# Altium footprint library EISI.PcbLib: 695 footprints (part 41 of 44)
Each footprint in its own frame and in the unit in brackets; x right, y up, seen from the top. Pads: shape width x height; smd on the part's side, far side on the other; paste and mask are expansions set on the pad; w line width, h text height; cw(c..) or ccw(c..) is an arc to the next point about the centre after c.
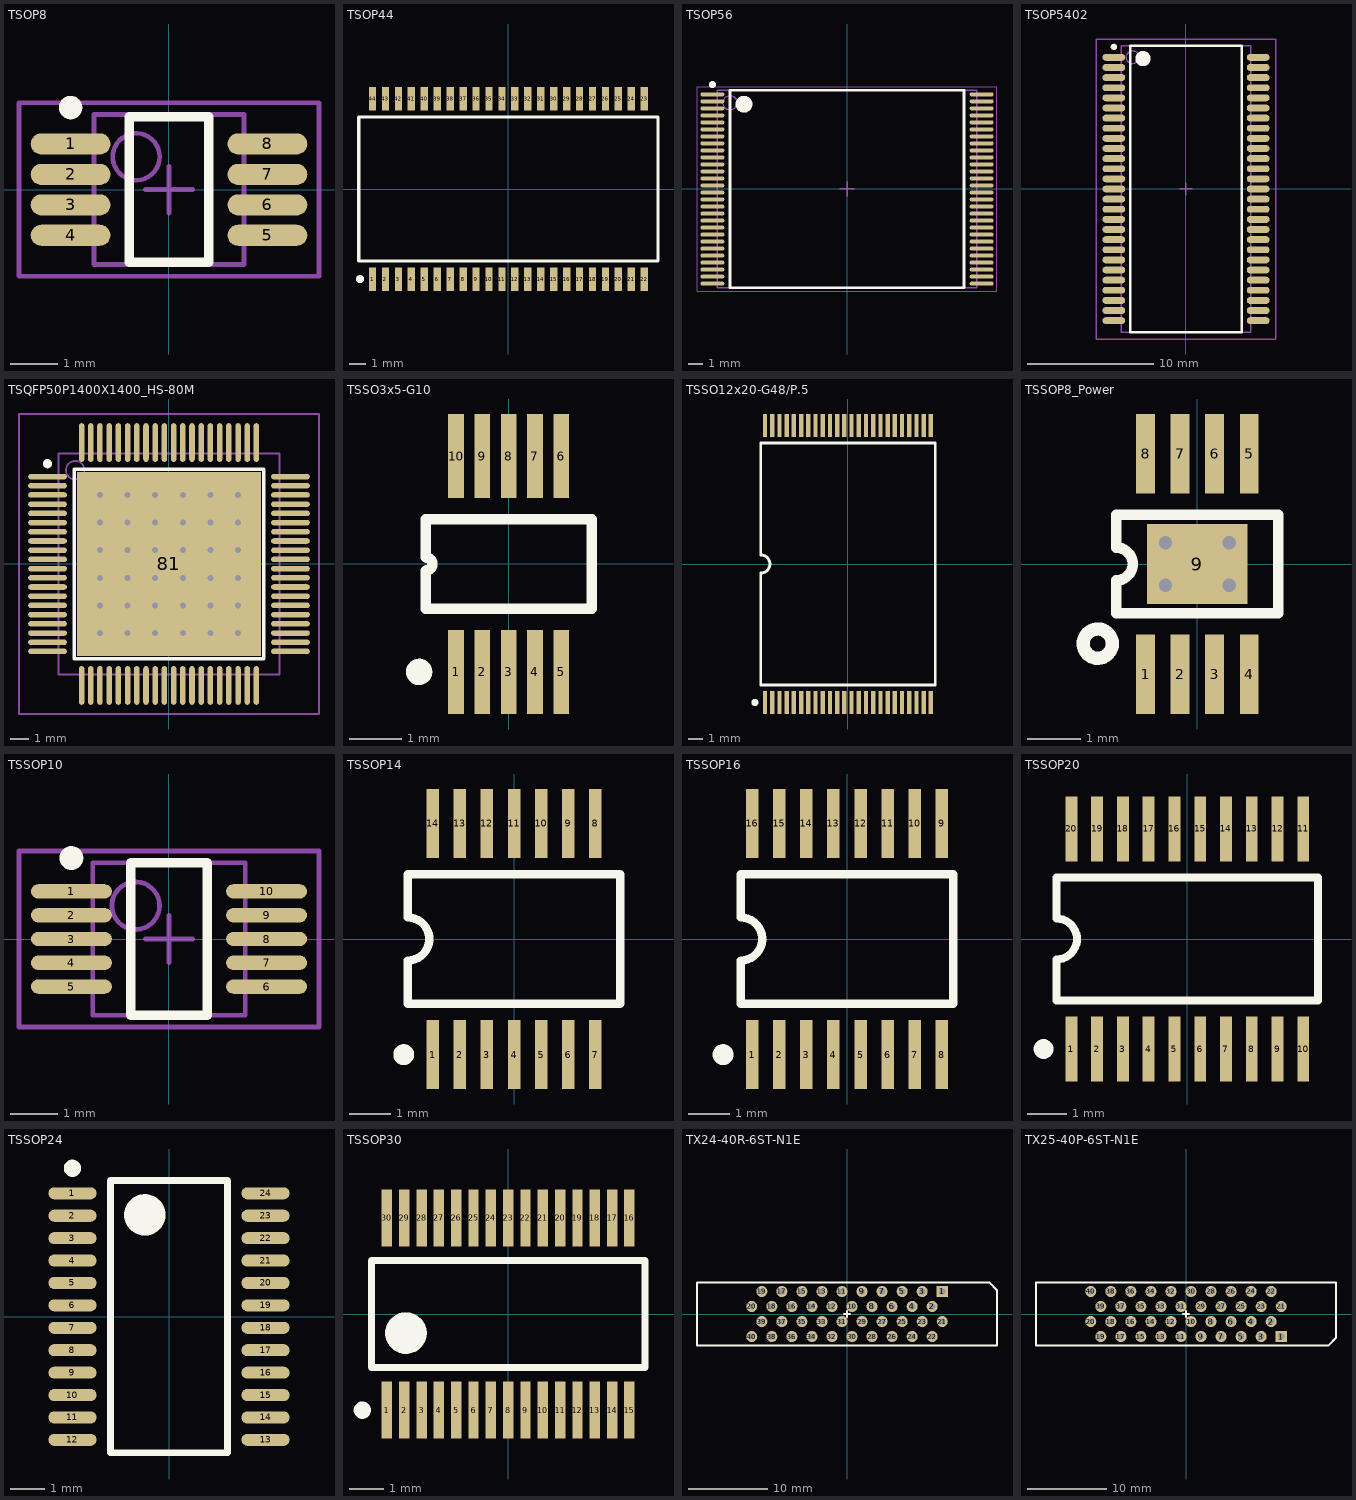
[diagram p40: the footprints below, top view; thin cyan lines are the x and y axes]

## TSOP8 [mm] "TSOP, 8-Leads, Body 3x3mm, Pitch 0.65mm, IPC Medium Density"
height 1.09
pads (8):
  oval 1.7x0.45 smd: 1(-2.1,0.975) 2(-2.1,0.325) 3(-2.1,-0.325) 4(-2.1,-0.975) 5(2.1,-0.975) 6(2.1,-0.325) 7(2.1,0.325) 8(2.1,0.975)
TopOverlay:
  circle w0.25: c-2.1,1.75 r0.125
  lines w0.2: -0.85,-1.55 -0.85,1.55 0.85,1.55 0.85,-1.55 -0.85,-1.55
Mechanical13:
  circle w0.1: c-0.7,0.7 r0.5
  lines w0.1: -1.6,-1.6 -1.6,1.6 1.6,1.6 1.6,-1.6 -1.6,-1.6
Mechanical15:
  lines w0.1: -0.5,0 0.5,0 ; 0,-0.5 0,0.5 ; -3.2,-1.85 -3.2,1.85 3.2,1.85 3.2,-1.85 -3.2,-1.85
3D body: height 1.09, standoff 0, extent -1.6,-1.6 1.6,1.6

## TSOP44 [mm] "Small Outline; 44 Leads; Body Width 10.16 mm; Pitch 0.8 mm"
height 1.2
pads (44):
  rect 0.45x1.45 smd: 1(-8.4,-5.575) 2(-7.6,-5.575) 3(-6.8,-5.575) 4(-6,-5.575) 5(-5.2,-5.575) 6(-4.4,-5.575) 7(-3.6,-5.575) 8(-2.8,-5.575) 9(-2,-5.575) 10(-1.2,-5.575) 11(-0.4,-5.575) 12(0.4,-5.575) 13(1.2,-5.575) 14(2,-5.575) 15(2.8,-5.575) 16(3.6,-5.575) 17(4.4,-5.575) 18(5.2,-5.575) 19(6,-5.575) 20(6.8,-5.575) 21(7.6,-5.575) 22(8.4,-5.575) 23(8.4,5.575) 24(7.6,5.575) 25(6.8,5.575) 26(6,5.575) 27(5.2,5.575) 28(4.4,5.575) 29(3.6,5.575) 30(2.8,5.575) 31(2,5.575) 32(1.2,5.575) 33(0.4,5.575) 34(-0.4,5.575) 35(-1.2,5.575) 36(-2,5.575) 37(-2.8,5.575) 38(-3.6,5.575) 39(-4.4,5.575) 40(-5.2,5.575) 41(-6,5.575) 42(-6.8,5.575) 43(-7.6,5.575) 44(-8.4,5.575)
TopOverlay:
  circle w0.25: c-9.175,-5.575 r0.125
  lines w0.2: -9.25,-4.45 9.25,-4.45 9.25,4.45 -9.25,4.45 -9.25,-0.635 -9.25,-4.45

## TSOP56 [mm] "SOP, 56-Leads, Body 18.4x14mm, Pitch 0.5mm, IPC Medium Density"
height 1
pads (56):
  oval 1.7x0.3 smd: 1(-9.6,6.75) 2(-9.6,6.25) 3(-9.6,5.75) 4(-9.6,5.25) 5(-9.6,4.75) 6(-9.6,4.25) 7(-9.6,3.75) 8(-9.6,3.25) 9(-9.6,2.75) 10(-9.6,2.25) 11(-9.6,1.75) 12(-9.6,1.25) 13(-9.6,0.75) 14(-9.6,0.25) 15(-9.6,-0.25) 16(-9.6,-0.75) 17(-9.6,-1.25) 18(-9.6,-1.75) 19(-9.6,-2.25) 20(-9.6,-2.75) 21(-9.6,-3.25) 22(-9.6,-3.75) 23(-9.6,-4.25) 24(-9.6,-4.75) 25(-9.6,-5.25) 26(-9.6,-5.75) 27(-9.6,-6.25) 28(-9.6,-6.75) 29(9.6,-6.75) 30(9.6,-6.25) 31(9.6,-5.75) 32(9.6,-5.25) 33(9.6,-4.75) 34(9.6,-4.25) 35(9.6,-3.75) 36(9.6,-3.25) 37(9.6,-2.75) 38(9.6,-2.25) 39(9.6,-1.75) 40(9.6,-1.25) 41(9.6,-0.75) 42(9.6,-0.25) 43(9.6,0.25) 44(9.6,0.75) 45(9.6,1.25) 46(9.6,1.75) 47(9.6,2.25) 48(9.6,2.75) 49(9.6,3.25) 50(9.6,3.75) 51(9.6,4.25) 52(9.6,4.75) 53(9.6,5.25) 54(9.6,5.75) 55(9.6,6.25) 56(9.6,6.75)
TopOverlay:
  circle w0.6: c-7.35,6.05 r0.3
  circle w0.25: c-9.6,7.45 r0.125
  lines w0.2: -8.35,-7.05 8.35,-7.05 8.35,7.05 -8.35,7.05 -8.35,-7.05
Mechanical13:
  circle w0.1: c-8.35,6.15 r0.5
  lines w0.1: -9.25,-7.05 9.25,-7.05 9.25,7.05 -9.25,7.05 -9.25,-7.05
Mechanical15:
  lines w0.05: -10.7,-7.3 10.7,-7.3 10.7,7.3 -10.7,7.3 -10.7,-7.3
  lines w0.1: -0.5,0 0.5,0 ; 0,-0.5 0,0.5
3D body: height 0.05, standoff 0, extent -9.25,-7.05 9.25,7.05

## TSOP5402 [mm] "SOP, 54-Leads, Body 22.5x10.16mm, Pitch 0.8mm, IPC Low Density"
height 1.2
pads (54):
  oval 1.8x0.55 smd: 1(-5.7,10.4) 2(-5.7,9.6) 3(-5.7,8.8) 4(-5.7,8) 5(-5.7,7.2) 6(-5.7,6.4) 7(-5.7,5.6) 8(-5.7,4.8) 9(-5.7,4) 10(-5.7,3.2) 11(-5.7,2.4) 12(-5.7,1.6) 13(-5.7,0.8) 14(-5.7,0) 15(-5.7,-0.8) 16(-5.7,-1.6) 17(-5.7,-2.4) 18(-5.7,-3.2) 19(-5.7,-4) 20(-5.7,-4.8) 21(-5.7,-5.6) 22(-5.7,-6.4) 23(-5.7,-7.2) 24(-5.7,-8) 25(-5.7,-8.8) 26(-5.7,-9.6) 27(-5.7,-10.4) 28(5.7,-10.4) 29(5.7,-9.6) 30(5.7,-8.8) 31(5.7,-8) 32(5.7,-7.2) 33(5.7,-6.4) 34(5.7,-5.6) 35(5.7,-4.8) 36(5.7,-4) 37(5.7,-3.2) 38(5.7,-2.4) 39(5.7,-1.6) 40(5.7,-0.8) 41(5.7,0) 42(5.7,0.8) 43(5.7,1.6) 44(5.7,2.4) 45(5.7,3.2) 46(5.7,4) 47(5.7,4.8) 48(5.7,5.6) 49(5.7,6.4) 50(5.7,7.2) 51(5.7,8) 52(5.7,8.8) 53(5.7,9.6) 54(5.7,10.4)
TopOverlay:
  circle w0.25: c-5.7,11.225 r0.125
  circle w0.6: c-3.4,10.3 r0.3
  lines w0.2: -4.4,-11.3 -4.4,11.3 4.4,11.3 4.4,-11.3 -4.4,-11.3
Mechanical13:
  circle w0.1: c-4.22,10.41 r0.5
  lines w0.1: -5.12,-11.31 -5.12,11.31 5.12,11.31 5.12,-11.31 -5.12,-11.31
Mechanical15:
  lines w0.1: -0.5,0 0.5,0 ; 0,-0.5 0,0.5 ; -7.1,-11.85 -7.1,11.85 7.1,11.85 7.1,-11.85 -7.1,-11.85
3D body: height 1.2, standoff 0, extent -5.12,-11.31 5.12,11.31

## TSQFP50P1400X1400_HS-80M [mm] "80-Pin Plastic Quad Flat Pack PowerPAD"
height 1.2
pads (81):
  oval 2.1x0.3 smd: 1(-6.6,4.75) 2(-6.6,4.25) 3(-6.6,3.75) 4(-6.6,3.25) 5(-6.6,2.75) 6(-6.6,2.25) 7(-6.6,1.75) 8(-6.6,1.25) 9(-6.6,0.75) 10(-6.6,0.25) 11(-6.6,-0.25) 12(-6.6,-0.75) 13(-6.6,-1.25) 14(-6.6,-1.75) 15(-6.6,-2.25) 16(-6.6,-2.75) 17(-6.6,-3.25) 18(-6.6,-3.75) 19(-6.6,-4.25) 20(-6.6,-4.75) 41(6.6,-4.75) 42(6.6,-4.25) 43(6.6,-3.75) 44(6.6,-3.25) 45(6.6,-2.75) 46(6.6,-2.25) 47(6.6,-1.75) 48(6.6,-1.25) 49(6.6,-0.75) 50(6.6,-0.25) 51(6.6,0.25) 52(6.6,0.75) 53(6.6,1.25) 54(6.6,1.75) 55(6.6,2.25) 56(6.6,2.75) 57(6.6,3.25) 58(6.6,3.75) 59(6.6,4.25) 60(6.6,4.75)
  oval 0.3x2.1 smd: 21(-4.75,-6.6) 22(-4.25,-6.6) 23(-3.75,-6.6) 24(-3.25,-6.6) 25(-2.75,-6.6) 26(-2.25,-6.6) 27(-1.75,-6.6) 28(-1.25,-6.6) 29(-0.75,-6.6) 30(-0.25,-6.6) 31(0.25,-6.6) 32(0.75,-6.6) 33(1.25,-6.6) 34(1.75,-6.6) 35(2.25,-6.6) 36(2.75,-6.6) 37(3.25,-6.6) 38(3.75,-6.6) 39(4.25,-6.6) 40(4.75,-6.6) 61(4.75,6.6) 62(4.25,6.6) 63(3.75,6.6) 64(3.25,6.6) 65(2.75,6.6) 66(2.25,6.6) 67(1.75,6.6) 68(1.25,6.6) 69(0.75,6.6) 70(0.25,6.6) 71(-0.25,6.6) 72(-0.75,6.6) 73(-1.25,6.6) 74(-1.75,6.6) 75(-2.25,6.6) 76(-2.75,6.6) 77(-3.25,6.6) 78(-3.75,6.6) 79(-4.25,6.6) 80(-4.75,6.6)
  rect 10x10 smd: 81(0,0)
via -0.75,-3.75 diameter 0.43 hole 0.33
via -2.25,-3.75 diameter 0.43 hole 0.33
via -3.75,-3.75 diameter 0.43 hole 0.33
via 0.75,-3.75 diameter 0.43 hole 0.33
via 2.25,-3.75 diameter 0.43 hole 0.33
via 3.75,-3.75 diameter 0.43 hole 0.33
via -0.75,-2.25 diameter 0.43 hole 0.33
via -2.25,-2.25 diameter 0.43 hole 0.33
via -3.75,-2.25 diameter 0.43 hole 0.33
via 0.75,-2.25 diameter 0.43 hole 0.33
via 2.25,-2.25 diameter 0.43 hole 0.33
via 3.75,-2.25 diameter 0.43 hole 0.33
via -0.75,-0.75 diameter 0.43 hole 0.33
via -2.25,-0.75 diameter 0.43 hole 0.33
via -3.75,-0.75 diameter 0.43 hole 0.33
via 0.75,-0.75 diameter 0.43 hole 0.33
via 2.25,-0.75 diameter 0.43 hole 0.33
via 3.75,-0.75 diameter 0.43 hole 0.33
via -0.75,3.75 diameter 0.43 hole 0.33
via -2.25,3.75 diameter 0.43 hole 0.33
via -3.75,3.75 diameter 0.43 hole 0.33
via 0.75,3.75 diameter 0.43 hole 0.33
via 2.25,3.75 diameter 0.43 hole 0.33
via 3.75,3.75 diameter 0.43 hole 0.33
via -0.75,2.25 diameter 0.43 hole 0.33
via -2.25,2.25 diameter 0.43 hole 0.33
via -3.75,2.25 diameter 0.43 hole 0.33
via 0.75,2.25 diameter 0.43 hole 0.33
via 2.25,2.25 diameter 0.43 hole 0.33
via 3.75,2.25 diameter 0.43 hole 0.33
via -0.75,0.75 diameter 0.43 hole 0.33
via -2.25,0.75 diameter 0.43 hole 0.33
via -3.75,0.75 diameter 0.43 hole 0.33
via 0.75,0.75 diameter 0.43 hole 0.33
via 2.25,0.75 diameter 0.43 hole 0.33
via 3.75,0.75 diameter 0.43 hole 0.33
TopOverlay:
  circle w0.25: c-6.6,5.45 r0.125
  lines w0.2: -5.15,-5.15 -5.15,5.15 5.15,5.15 5.15,-5.15 -5.15,-5.15
Mechanical13:
  circle w0.1: c-5.1,5.1 r0.5
  lines w0.1: -6,-6 -6,6 6,6 6,-6 -6,-6
Mechanical15:
  lines w0.1: -0.5,0 0.5,0 ; 0,-0.5 0,0.5 ; -8.15,-8.15 -8.15,8.15 8.15,8.15 8.15,-8.15 -8.15,-8.15
3D body: height 1.2, standoff 0, extent -6,-6 6,6

## TSSO3x5-G10 [mm] "Shrink Small Outline; 10 Leads; Body Width 3 mm; Pitch 0.5 mm"
height 1.1
pads (10):
  rect 0.3x1.6 smd: 1(-1,-2.05) 2(-0.5,-2.05) 3(0,-2.05) 4(0.5,-2.05) 5(1,-2.05) 6(1,2.05) 7(0.5,2.05) 8(0,2.05) 9(-0.5,2.05) 10(-1,2.05)
TopOverlay:
  circle w0.25: c-1.7,-2.05 r0.125
  lines w0.2: -1.575,-0.85 1.575,-0.85 1.575,0.85 -1.575,0.85 -1.575,0.125 cw(c-1.575,0) -1.575,-0.125 -1.575,-0.85

## TSSO12x20-G48/P.5 [mm]
pads (48):
  rect 0.3x1.6 smd: 1(-5.75,-9.6) 2(-5.25,-9.6) 3(-4.75,-9.6) 4(-4.25,-9.6) 5(-3.75,-9.6) 6(-3.25,-9.6) 7(-2.75,-9.6) 8(-2.25,-9.6) 9(-1.75,-9.6) 10(-1.25,-9.6) 11(-0.75,-9.6) 12(-0.25,-9.6) 13(0.25,-9.6) 14(0.75,-9.6) 15(1.25,-9.6) 16(1.75,-9.6) 17(2.25,-9.6) 18(2.75,-9.6) 19(3.25,-9.6) 20(3.75,-9.6) 21(4.25,-9.6) 22(4.75,-9.6) 23(5.25,-9.6) 24(5.75,-9.6) 25(5.75,9.6) 26(5.25,9.6) 27(4.75,9.6) 28(4.25,9.6) 29(3.75,9.6) 30(3.25,9.6) 31(2.75,9.6) 32(2.25,9.6) 33(1.75,9.6) 34(1.25,9.6) 35(0.75,9.6) 36(0.25,9.6) 37(-0.25,9.6) 38(-0.75,9.6) 39(-1.25,9.6) 40(-1.75,9.6) 41(-2.25,9.6) 42(-2.75,9.6) 43(-3.25,9.6) 44(-3.75,9.6) 45(-4.25,9.6) 46(-4.75,9.6) 47(-5.25,9.6) 48(-5.75,9.6)
TopOverlay:
  circle w0.25: c-6.45,-9.6 r0.125
  lines w0.2: -6.05,-8.4 -6.05,-0.635 ccw(c-6.05,0) -6.05,0.635 -6.05,8.4 6.05,8.4 6.05,-8.4 -6.05,-8.4

## TSSOP8_Power [mm] "DGN Width 3 mm; Pitch 0.65 mm"
height 1.11
pads (9):
  rect 0.35x1.5 smd: 1(-0.975,-2.075) 2(-0.325,-2.075) 3(0.325,-2.075) 4(0.975,-2.075) 5(0.975,2.075) 6(0.325,2.075) 7(-0.325,2.075) 8(-0.975,2.075)
  rect 1.9x1.5 smd: 9(0,0)
via -0.6,0.4 diameter 0.5 hole 0.25
via 0.6,0.4 diameter 0.5 hole 0.25
via 0.6,-0.4 diameter 0.5 hole 0.25
via -0.6,-0.4 diameter 0.5 hole 0.25
TopOverlay:
  circle w0.25: c-1.875,-1.5 r0.275
  lines w0.2: -1.525,-0.925 1.525,-0.925 1.525,0.925 -1.525,0.925 -1.525,0.308 cw(c-1.525,0) -1.525,-0.308 -1.525,-0.925

## TSSOP10 [mm] "TSSOP, 10-Leads, Body 3x3mm, Pitch 0.5mm, IPC Medium Density"
height 1.1
pads (10):
  oval 1.7x0.3 smd: 1(-2.05,1) 2(-2.05,0.5) 3(-2.05,0) 4(-2.05,-0.5) 5(-2.05,-1) 6(2.05,-1) 7(2.05,-0.5) 8(2.05,0) 9(2.05,0.5) 10(2.05,1)
TopOverlay:
  circle w0.25: c-2.05,1.7 r0.125
  lines w0.2: -0.8,-1.6 0.8,-1.6 0.8,1.6 -0.8,1.6 -0.8,-1.6
Mechanical13:
  circle w0.1: c-0.7,0.7 r0.5
  lines w0.1: -1.6,-1.6 1.6,-1.6 1.6,1.6 -1.6,1.6 -1.6,-1.6
Mechanical15:
  lines w0.1: -0.5,0 0.5,0 ; 0,-0.5 0,0.5 ; -3.15,-1.85 3.15,-1.85 3.15,1.85 -3.15,1.85 -3.15,-1.85
3D body: height 1.1, standoff 0, extent -1.6,-1.6 1.6,1.6

## TSSOP14 [mm] "Shrink Small Outline, TSSOP; 14 Leads; Body Width 4.4 mm; Pitch 0.65 mm"
height 1.2
pads (14):
  rect 0.3x1.65 smd: 1(-1.95,-2.775) 2(-1.3,-2.775) 3(-0.65,-2.775) 4(0,-2.775) 5(0.65,-2.775) 6(1.3,-2.775) 7(1.95,-2.775) 8(1.95,2.775) 9(1.3,2.775) 10(0.65,2.775) 11(0,2.775) 12(-0.65,2.775) 13(-1.3,2.775) 14(-1.95,2.775)
TopOverlay:
  circle w0.25: c-2.65,-2.775 r0.125
  lines w0.2: -2.55,-1.55 -2.55,-0.517 ccw(c-2.55,0) -2.55,0.517 -2.55,1.55 2.55,1.55 2.55,-1.55 -2.55,-1.55

## TSSOP16 [mm] "Shrink Small Outline; 16 Leads; Body Width 4.4 mm; Pitch 0.65 mm"
height 1.1
pads (16):
  rect 0.3x1.65 smd: 1(-2.275,-2.775) 2(-1.625,-2.775) 3(-0.975,-2.775) 4(-0.325,-2.775) 5(0.325,-2.775) 6(0.975,-2.775) 7(1.625,-2.775) 8(2.275,-2.775) 9(2.275,2.775) 10(1.625,2.775) 11(0.975,2.775) 12(0.325,2.775) 13(-0.325,2.775) 14(-0.975,2.775) 15(-1.625,2.775) 16(-2.275,2.775)
TopOverlay:
  circle w0.25: c-2.975,-2.775 r0.125
  lines w0.2: -2.55,-1.55 2.55,-1.55 2.55,1.55 -2.55,1.55 -2.55,0.517 cw(c-2.55,0) -2.55,-0.517 -2.55,-1.55

## TSSOP20 [mm] "Shrink Small Outline; 20 Leads; Body Width 4.4 mm; Pitch 0.65 mm"
height 1.2
pads (20):
  rect 0.3x1.65 smd: 1(-2.925,-2.775) 2(-2.275,-2.775) 3(-1.625,-2.775) 4(-0.975,-2.775) 5(-0.325,-2.775) 6(0.325,-2.775) 7(0.975,-2.775) 8(1.625,-2.775) 9(2.275,-2.775) 10(2.925,-2.775) 11(2.925,2.775) 12(2.275,2.775) 13(1.625,2.775) 14(0.975,2.775) 15(0.325,2.775) 16(-0.325,2.775) 17(-0.975,2.775) 18(-1.625,2.775) 19(-2.275,2.775) 20(-2.925,2.775)
TopOverlay:
  circle w0.25: c-3.625,-2.775 r0.125
  lines w0.2: -3.3,-1.55 -3.3,-0.517 ccw(c-3.3,0) -3.3,0.517 -3.3,1.55 3.3,1.55 3.3,-1.55 -3.3,-1.55

## TSSOP24 [mm] "TSOP, 24-Leads, Body 7.8x4.4mm, Pitch 0.65mm, IPC High Density"
height 1.2
pads (24):
  oval 1.4x0.35 smd: 1(-2.8,3.575) 2(-2.8,2.925) 3(-2.8,2.275) 4(-2.8,1.625) 5(-2.8,0.975) 6(-2.8,0.325) 7(-2.8,-0.325) 8(-2.8,-0.975) 9(-2.8,-1.625) 10(-2.8,-2.275) 11(-2.8,-2.925) 12(-2.8,-3.575) 13(2.8,-3.575) 14(2.8,-2.925) 15(2.8,-2.275) 16(2.8,-1.625) 17(2.8,-0.975) 18(2.8,-0.325) 19(2.8,0.325) 20(2.8,0.975) 21(2.8,1.625) 22(2.8,2.275) 23(2.8,2.925) 24(2.8,3.575)
TopOverlay:
  circle w0.25: c-2.8,4.3 r0.125
  circle w0.6: c-0.7,2.95 r0.3
  lines w0.2: -1.7,-3.95 -1.7,3.95 1.7,3.95 1.7,-3.95 -1.7,-3.95

## TSSOP30 [mm] "Shrink Small Outline; 30 Leads; Body Width 4.4 mm; Pitch 0.5 mm"
height 1.2
pads (30):
  rect 0.3x1.65 smd: 1(-3.5,-2.775) 2(-3,-2.775) 3(-2.5,-2.775) 4(-2,-2.775) 5(-1.5,-2.775) 6(-1,-2.775) 7(-0.5,-2.775) 8(0,-2.775) 9(0.5,-2.775) 10(1,-2.775) 11(1.5,-2.775) 12(2,-2.775) 13(2.5,-2.775) 14(3,-2.775) 15(3.5,-2.775) 16(3.5,2.775) 17(3,2.775) 18(2.5,2.775) 19(2,2.775) 20(1.5,2.775) 21(1,2.775) 22(0.5,2.775) 23(0,2.775) 24(-0.5,2.775) 25(-1,2.775) 26(-1.5,2.775) 27(-2,2.775) 28(-2.5,2.775) 29(-3,2.775) 30(-3.5,2.775)
TopOverlay:
  circle w0.6: c-2.95,-0.55 r0.3
  circle w0.25: c-4.21,-2.775 r0.125
  lines w0.2: -3.95,-1.55 3.95,-1.55 3.95,1.55 -3.95,1.55 -3.95,-0.517 -3.95,-1.55

## TX24-40R-6ST-N1E [mm] "JAE CON RCPT 1.27MM 40POS"
height 9.2
pads (40):
  rect 1.4x1.4 hole 0.8: 1(12.065,2.857)
  round 1.4 hole 0.8: 2(10.795,0.953) 3(9.525,2.857) 4(8.255,0.953) 5(6.985,2.857) 6(5.715,0.953) 7(4.445,2.857) 8(3.175,0.953) 9(1.905,2.857) 10(0.635,0.953) 11(-0.635,2.857) 12(-1.905,0.953) 13(-3.175,2.857) 14(-4.445,0.953) 15(-5.715,2.857) 16(-6.985,0.953) 17(-8.255,2.857) 18(-9.525,0.953) 19(-10.795,2.857) 20(-12.065,0.953) 21(12.065,-0.953) 22(10.795,-2.857) 23(9.525,-0.953) 24(8.255,-2.857) 25(6.985,-0.953) 26(5.715,-2.857) 27(4.445,-0.953) 28(3.175,-2.857) 29(1.905,-0.953) 30(0.635,-2.857) 31(-0.635,-0.953) 32(-1.905,-2.857) 33(-3.175,-0.953) 34(-4.445,-2.857) 35(-5.715,-0.953) 36(-6.985,-2.857) 37(-8.255,-0.953) 38(-9.525,-2.857) 39(-10.795,-0.953) 40(-12.065,-2.857)
TopOverlay:
  lines w0.254: -0.4,0 0.4,0 ; 0,-0.4 0,0.4 ; -19,-4 19,-4 19,3 18,4 -19,4 -19,-4

## TX25-40P-6ST-N1E [mm] "JAE CON PLUG 1.27MM 40POS"
height 9.2
pads (40):
  rect 1.4x1.4 hole 0.8: 1(12.065,-2.857)
  round 1.4 hole 0.8: 2(10.795,-0.953) 3(9.525,-2.857) 4(8.255,-0.953) 5(6.985,-2.857) 6(5.715,-0.953) 7(4.445,-2.857) 8(3.175,-0.953) 9(1.905,-2.857) 10(0.635,-0.953) 11(-0.635,-2.857) 12(-1.905,-0.953) 13(-3.175,-2.857) 14(-4.445,-0.953) 15(-5.715,-2.857) 16(-6.985,-0.953) 17(-8.255,-2.857) 18(-9.525,-0.953) 19(-10.795,-2.857) 20(-12.065,-0.953) 21(12.065,0.953) 22(10.795,2.857) 23(9.525,0.953) 24(8.255,2.857) 25(6.985,0.953) 26(5.715,2.857) 27(4.445,0.953) 28(3.175,2.857) 29(1.905,0.953) 30(0.635,2.857) 31(-0.635,0.953) 32(-1.905,2.857) 33(-3.175,0.953) 34(-4.445,2.857) 35(-5.715,0.953) 36(-6.985,2.857) 37(-8.255,0.953) 38(-9.525,2.857) 39(-10.795,0.953) 40(-12.065,2.857)
TopOverlay:
  lines w0.254: -0.4,0 0.4,0 ; 0,-0.4 0,0.4 ; -19,-4 -19,4 19,4 19,-3 18,-4 -19,-4